# Altium footprint library missingcomponents.pcblib: 5 footprints
Each footprint in its own frame and in the unit in brackets; x right, y up, seen from the top. Pads: shape width x height; smd on the part's side, far side on the other; paste and mask are expansions set on the pad; w line width, h text height; cw(c..) or ccw(c..) is an arc to the next point about the centre after c.
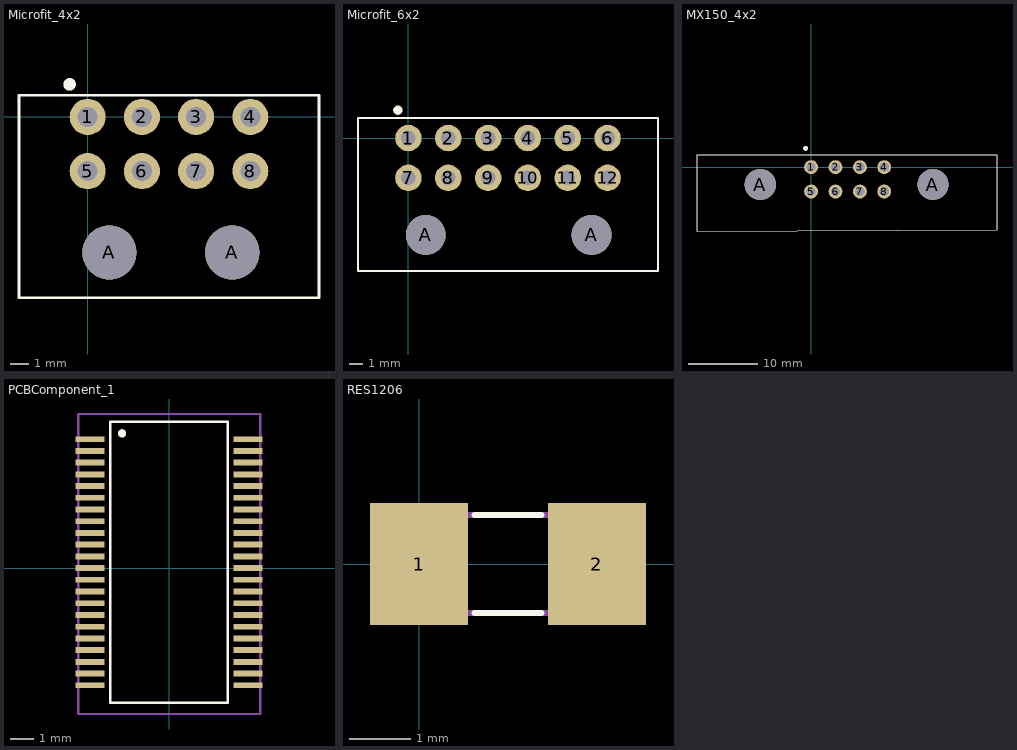
[diagram p0: the footprints below, top view; thin cyan lines are the x and y axes]

## Microfit_4x2 [mm]
pads (10):
  round 2 hole 1.1: 1(0,0) 2(3,0) 3(6,0) 4(9,0) 5(0,-3) 6(3,-3) 7(6,-3) 8(9,-3)
  round 3 hole 3: A(1.2,-7.5) A(8,-7.5)
Top Overlay:
  circle w0.254: c-1,1.8 r0.224
  rectangle: -1.1,1.6 -0.9,1.9
  lines w0.15: -3.8,-10 6.1,-10 12.8,-10 12.8,1.2 -3.8,1.2 -3.8,-10
3D body "430450800.stp": height 8.83, standoff -3.12, extent -3.575,-11.955 12.575,0.285

## Microfit_6x2 [mm]
pads (14):
  round 2 hole 1.1: 1(0,0) 2(3,0) 3(6,0) 4(9,0) 5(12,0) 6(15,0) 7(0,-3) 8(3,-3) 9(6,-3) 10(9,-3) 11(12,-3) 12(15,-3)
  round 3 hole 3: A(1.3,-7.3) A(13.8,-7.3)
Top Overlay:
  circle w0.254: c-0.8,2.1 r0.224
  rectangle: -0.9,1.9 -0.7,2.3
  lines w0.15: -3.8,-10 18.8,-10 18.8,1.5 -3.8,1.5 -3.8,-10
3D body "430451200.stp": height 2.12, standoff -9.83, extent -3.575,-11.955 18.575,0.285

## MX150_4x2 [mm]
pads (10):
  round 2 hole 1.3: 1(0,0) 2(3.5,0) 3(7,0) 4(10.5,0) 5(0,-3.5) 6(3.5,-3.5) 7(7,-3.5) 8(10.5,-3.5)
  round 4.5 hole 4.5: A(-7.3,-2.5) A(17.5,-2.5)
Top Overlay:
  circle w0.254: c-0.8,2.7 r0.224
  rectangle: -0.9,2.5 -0.7,2.9
  lines w0.15: -16.4,-9.2 26.7,-9 26.7,1.8 -16.4,1.8 -16.4,-9.2
3D body "348300801.stp": height 23.64, standoff -2.85, extent -16.154,-42.013 26.537,0.547

## PCBComponent_1 [mm]
pads (44):
  rect 1.25x0.25 smd: ""(-3.375,-5) ""(-3.375,-4.5) ""(-3.375,-4) ""(-3.375,-3.5) ""(-3.375,-3) ""(-3.375,-2.5) ""(-3.375,-2) ""(-3.375,-1.5) ""(-3.375,-1) ""(-3.375,-0.5) ""(-3.375,0) ""(-3.375,0.5) ""(-3.375,1) ""(-3.375,1.5) ""(-3.375,2) ""(-3.375,2.5) ""(-3.375,3) ""(-3.375,3.5) ""(-3.375,4) ""(-3.375,4.5) ""(-3.375,5) ""(-3.375,5.5) ""(3.375,-5) ""(3.375,-4.5) ""(3.375,-4) ""(3.375,-3.5) ""(3.375,-3) ""(3.375,-2.5) ""(3.375,-2) ""(3.375,-1.5) ""(3.375,-1) ""(3.375,-0.5) ""(3.375,0) ""(3.375,0.5) ""(3.375,1) ""(3.375,1.5) ""(3.375,2) ""(3.375,2.5) ""(3.375,3) ""(3.375,3.5) ""(3.375,4) ""(3.375,4.5) ""(3.375,5) ""(3.375,5.5)
Top Overlay:
  circle w0.25: c-2,5.75 r0.05
  lines w0.1: -2.5,-5.75 -2.5,6.25 2.5,6.25 2.5,-5.75 -2.5,-5.75
Mechanical 13:
  lines w0.1: -3.875,-6.225 3.9,-6.225 3.9,6.575 -3.875,6.575 -3.875,-6.225

## RES1206 [mm]
pads (2):
  rect 1.6x2 smd: 1(0,0) 2(2.9,0)
Top Overlay:
  lines w0.1: 0.9,-0.8 2,-0.8 ; 0.9,0.8 2,0.8
Mechanical 13:
  lines w0.1: -0.1,-0.8 -0.1,0.8 3.1,0.8 3.1,-0.8 -0.1,-0.8
3D body "68748.stp": height 0.6, standoff 0, extent -0.1,-0.8 3.1,0.8